# Altium footprint library Sensors_lib.PcbLib: 6 footprints
Each footprint in its own frame and in the unit in brackets; x right, y up, seen from the top. Pads: shape width x height; smd on the part's side, far side on the other; paste and mask are expansions set on the pad; w line width, h text height; cw(c..) or ccw(c..) is an arc to the next point about the centre after c.
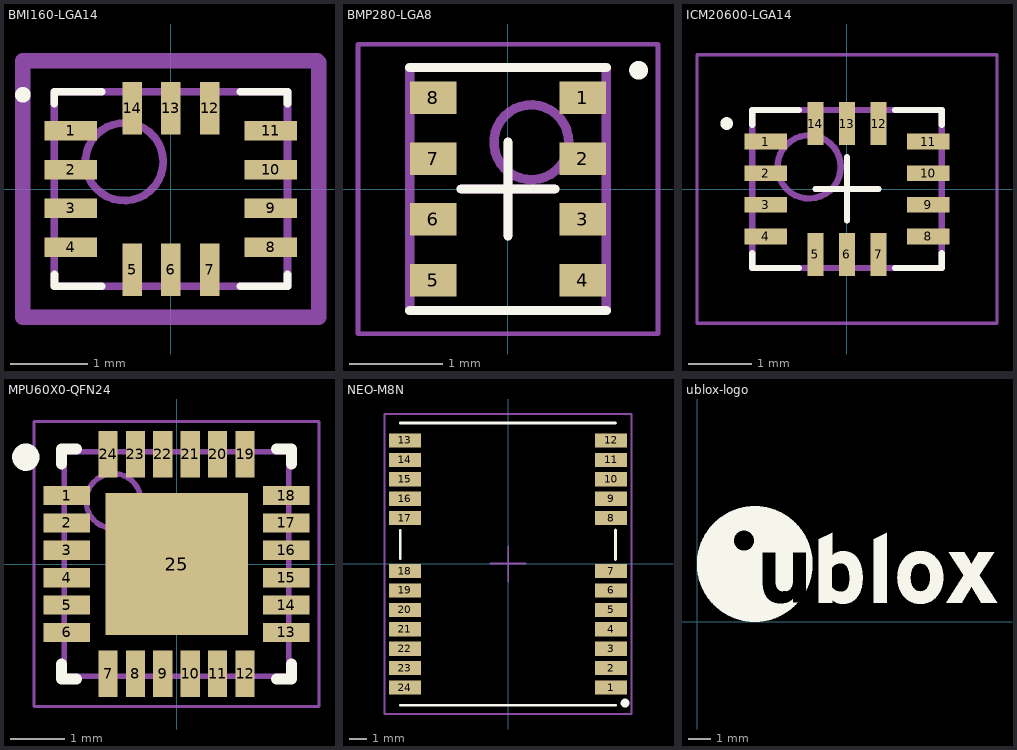
[diagram p0: the footprints below, top view; thin cyan lines are the x and y axes]

## BMI160-LGA14 [mm] "LCC, 14-Pins, Body 2.50x3.00mmx0.83mm, Pitch 0.50mm, IPC Medium Density"
height 0.83
pads (14):
  rect 0.675x0.25 smd: 1(-1.287,0.75) 2(-1.287,0.25) 3(-1.287,-0.25) 4(-1.287,-0.75) 8(1.287,-0.75) 9(1.287,-0.25) 10(1.287,0.25) 11(1.287,0.75)
  rect 0.25x0.675 smd: 5(-0.5,-1.037) 6(0,-1.037) 7(0.5,-1.037) 12(0.5,1.037) 13(0,1.037) 14(-0.5,1.037)
Top Overlay:
  circle w0.1: c-1.905,1.212 r0.05
  lines w0.1: -1.5,-1.1 -1.5,-1.25 -0.894,-1.25 ; -1.5,1.1 -1.5,1.25 -0.894,1.25 ; 0.894,-1.25 1.5,-1.25 1.5,-1.1 ; 0.894,1.25 1.5,1.25 1.5,1.1
Mechanical 10 (Mech10):
  lines w0.2: -1.905,-1.651 1.9,-1.651 1.9,1.631 1.88,1.651 -1.905,1.651 -1.905,-1.651
  text "'.Designator'" at 0,0 h0.8
Mechanical 13:
  circle w0.1: c-0.6,0.35 r0.5
  lines w0.1: -1.5,-1.25 -1.5,1.212 -1.462,1.25 1.5,1.25 1.5,-1.25 -1.5,-1.25
Mechanical 15:
  lines w0.05: -1.905,-1.651 -1.905,1.651 1.905,1.651 1.905,-1.651 -1.905,-1.651
3D body: height 0.97, standoff 0, extent -1.5,-1.25 1.5,1.25

## BMP280-LGA8 [mm] "SON, 8-Leads, Body 2.50x2.00mm, Pitch 0.65mm, IPC Medium Density"
height 1
pads (8):
  rect 0.5x0.35 smd: 1(0.8,0.975) 2(0.8,0.325) 3(0.8,-0.325) 4(0.8,-0.975) 5(-0.8,-0.975) 6(-0.8,-0.325) 7(-0.8,0.325) 8(-0.8,0.975)
Top Overlay:
  circle w0.1: c1.397,1.27 r0.05
  lines w0.1: -1.05,-1.3 1.05,-1.3 ; -1.05,1.3 1.05,1.3 ; -0.5,0 0.5,0 ; 0,-0.5 0,0.5
Mechanical 13:
  circle w0.1: c0.25,0.5 r0.4
  lines w0.1: -1.05,-1.3 1.05,-1.3 1.05,1.3 -1.05,1.3 -1.05,-1.3
Mechanical 15:
  lines w0.05: -1.605,-1.55 1.605,-1.55 1.605,1.55 -1.605,1.55 -1.605,-1.55
  lines w0.1: -0.5,0 0.5,0 ; 0,-0.5 0,0.5
3D body: height 1, standoff 0.15, extent -1.05,-1.3 1.05,1.3

## ICM20600-LGA14 [mm] "LCC, 14-Pins, Body 2.50x3.00mmx0.97mm, Pitch 0.50mm, IPC Medium Density"
height 0.97
pads (14):
  rect 0.675x0.25 smd: 1(-1.287,0.75) 2(-1.287,0.25) 3(-1.287,-0.25) 4(-1.287,-0.75) 8(1.287,-0.75) 9(1.287,-0.25) 10(1.287,0.25) 11(1.287,0.75)
  rect 0.25x0.675 smd: 5(-0.5,-1.037) 6(0,-1.037) 7(0.5,-1.037) 12(0.5,1.037) 13(0,1.037) 14(-0.5,1.037)
Top Overlay:
  circle w0.1: c-1.905,1.037 r0.05
  lines w0.1: -1.5,-1.016 -1.5,-1.25 -0.762,-1.25 ; -1.5,1.016 -1.5,1.25 -0.762,1.25 ; -0.5,0 0.5,0 ; 0,-0.496 0,0.504 ; 0.762,-1.25 1.5,-1.25 1.5,-1.016 ; 0.762,1.25 1.5,1.25 1.5,1.016
Mechanical 13:
  circle w0.1: c-0.6,0.35 r0.5
  lines w0.1: -1.5,-1.25 1.5,-1.25 1.5,1.25 -1.462,1.25 -1.5,1.212 -1.5,-1.25
Mechanical 15:
  lines w0.05: -2.375,-2.125 2.375,-2.125 2.375,2.125 -2.375,2.125 -2.375,-2.125
  lines w0.1: -0.5,0 0.5,0 ; 0,-0.5 0,0.5
3D body: height 0.97, standoff 0, extent -1.5,-1.25 1.5,1.25

## MPU60X0-QFN24 [mm] "QFN, 24-Leads, Body 4.00x4.00mm, Pitch 0.50mm, Thermal Pad 2.60x2.60mm, IPC Medium Density"
height 0.95
pads (25):
  rect 0.85x0.35 smd: 1(-2,1.25) 2(-2,0.75) 3(-2,0.25) 4(-2,-0.25) 5(-2,-0.75) 6(-2,-1.25) 13(2,-1.25) 14(2,-0.75) 15(2,-0.25) 16(2,0.25) 17(2,0.75) 18(2,1.25)
  rect 0.35x0.85 smd: 7(-1.25,-2) 8(-0.75,-2) 9(-0.25,-2) 10(0.25,-2) 11(0.75,-2) 12(1.25,-2) 19(1.25,2) 20(0.75,2) 21(0.25,2) 22(-0.25,2) 23(-0.75,2) 24(-1.25,2)
  rect 2.6x2.6 smd: 25(0,0)
Top Overlay:
  circle w0.25: c-2.75,1.95 r0.125
  lines w0.2: -2.1,-1.825 -2.1,-2.1 -1.825,-2.1 ; -2.1,1.825 -2.1,2.1 -1.825,2.1 ; 1.825,-2.1 2.1,-2.1 2.1,-1.825 ; 1.825,2.1 2.1,2.1 2.1,1.825
Mechanical 13:
  circle w0.1: c-1.15,1.15 r0.5
  lines w0.1: -2.05,-2.05 -2.05,2.05 2.05,2.05 2.05,-2.05 -2.05,-2.05
Mechanical 15:
  lines w0.05: -2.6,-2.6 -2.6,2.6 2.6,2.6 2.6,-2.6 -2.6,-2.6
  lines w0.1: -0.5,0 0.5,0 ; 0,-0.5 0,0.5
3D body: height 0.95, standoff 0.05, extent -2.05,-2.05 2.05,2.05

## NEO-M8N [mm] "u-blox NEO GNSS module"
height 2.4
pads (24):
  rect 1.8x0.8 smd paste-0.1: 1(5.822,-7.02) 2(5.822,-5.92) 3(5.822,-4.82) 4(5.822,-3.72) 5(5.822,-2.62) 6(5.822,-1.52) 7(5.822,-0.42) 8(5.822,2.58) 9(5.822,3.68) 10(5.822,4.78) 11(5.822,5.88) 12(5.822,6.98) 13(-5.862,6.98) 14(-5.862,5.88) 15(-5.862,4.78) 16(-5.862,3.68) 17(-5.862,2.58) 18(-5.862,-0.42) 19(-5.862,-1.52) 20(-5.862,-2.62) 21(-5.862,-3.72) 22(-5.862,-4.82) 23(-5.862,-5.92) 24(-5.862,-7.02)
Top Overlay:
  circle w0.38: c6.616,-7.899 r0.058
  lines w0.16: -6.129,-8.02 6.076,-8.02 ; -6.129,7.976 6.07,7.976 ; -6.122,0.279 -6.122,1.873 ; 6.076,0.235 6.076,1.899
Top Paste:
  rectangle: 5.622,-7.42 6.822,-6.62
  rectangle: 5.622,-6.32 6.822,-5.52
  rectangle: 5.622,-5.22 6.822,-4.42
  rectangle: 5.622,-4.12 6.822,-3.32
  rectangle: 5.622,-3.02 6.822,-2.22
  rectangle: 5.622,-1.92 6.822,-1.12
  rectangle: 5.622,-0.82 6.822,-0.02
  rectangle: 5.622,2.18 6.822,2.98
  rectangle: 5.622,3.28 6.822,4.08
  rectangle: 5.622,4.38 6.822,5.18
  rectangle: 5.622,5.48 6.822,6.28
  rectangle: 5.622,6.58 6.822,7.38
  rectangle: -6.853,6.58 -5.653,7.38
  rectangle: -6.853,5.48 -5.653,6.28
  rectangle: -6.853,4.38 -5.653,5.18
  rectangle: -6.853,3.28 -5.653,4.08
  rectangle: -6.853,2.18 -5.653,2.98
  rectangle: -6.853,-0.82 -5.653,-0.02
  rectangle: -6.853,-1.92 -5.653,-1.12
  rectangle: -6.853,-3.02 -5.653,-2.22
  rectangle: -6.853,-5.22 -5.653,-4.42
  rectangle: -6.853,-6.32 -5.653,-5.52
  rectangle: -6.853,-7.42 -5.653,-6.62
  rectangle: -6.853,-4.12 -5.653,-3.32
Mechanical 15:
  lines w0.1: -1.02,0.004 0,0.004 ; 0,-1.02 0,0.004 ; 0,0.98 0,0.004 ; 0.98,0.004 0,0.004 ; -7.02,-8.52 6.98,-8.52 6.98,8.48 -7.02,8.48 -7.02,-8.52
3D body "NEO (STEP-AP214)_B.STEP": height 2.28, standoff -0.05, extent -6.124,-8.02 6.076,7.98

## ublox-logo [mm] "ublox-logo"
Top Overlay:
  drawing of 5 lines, arcs and shapes, not listed